# Altium footprint library 2016-03-26_18-23-46.PcbLib: 10 footprints
Each footprint in its own frame and in the unit in brackets; x right, y up, seen from the top. Pads: shape width x height; smd on the part's side, far side on the other; paste and mask are expansions set on the pad; w line width, h text height; cw(c..) or ccw(c..) is an arc to the next point about the centre after c.
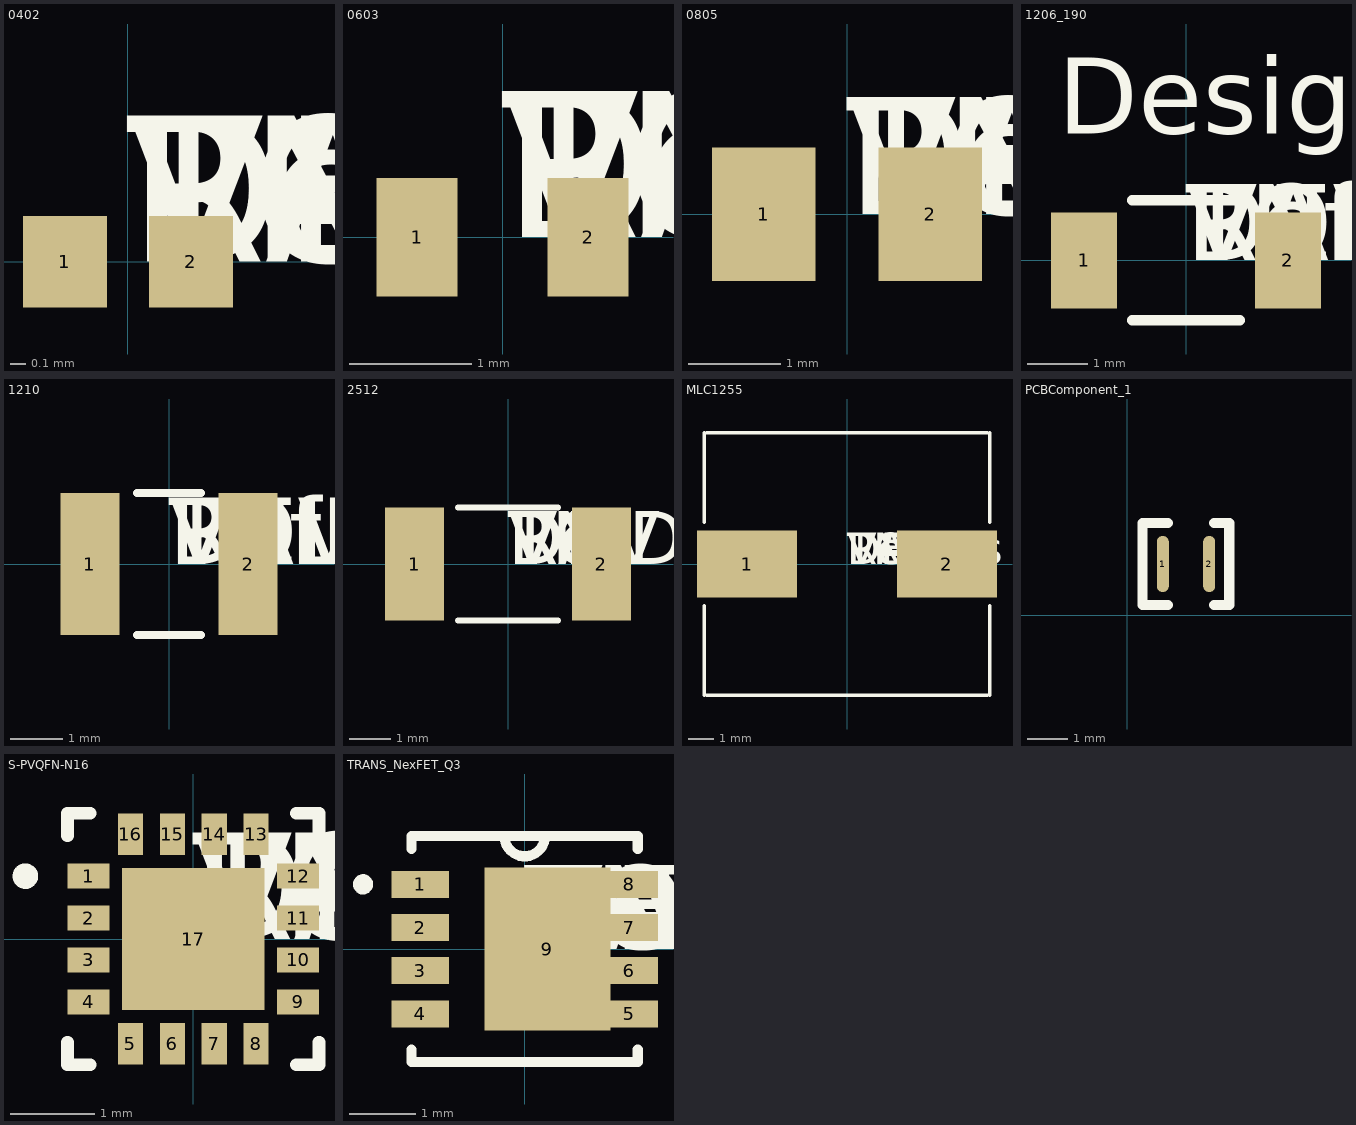
[diagram p0: the footprints below, top view; thin cyan lines are the x and y axes]

## 0402 [mil]
pads (2):
  rect 22x24 smd: 1(-16.5,0) 2(16.5,0)
Top Overlay:
  text "RefDes" at 0,0 h50
  text "DEV" at 0,0 h50
  text "PN" at 0,0 h50
  text "DEV" at 0,0 h50
  text "VAL" at 0,0 h50
  text "TOL" at 0,0 h50

## 0603 [mil]
pads (2):
  rect 26x38 smd: 1(-27.5,0) 2(27.5,0)
Top Overlay:
  text "RefDes" at 0,0 h50
  text "DEV" at 0,0 h50
  text "PN" at 0,0 h50
  text "DEV" at 0,0 h50
  text "VAL" at 0,0 h50
  text "TOL" at 0,0 h50

## 0805 [mil]
pads (2):
  rect 44x57 smd: 1(-35.5,0) 2(35.5,0)
Top Overlay:
  text "RefDes" at 0,0 h50
  text "DEV" at 0,0 h50
  text "PN" at 0,0 h50
  text "DEV" at 0,0 h50
  text "VAL" at 0,0 h50
  text "TOL" at 0,0 h50

## 1206_190 [mm]
pads (2):
  rect 1.1x1.6 smd paste+0 mask+0.051: 1(-1.7,0) 2(1.7,0)
Top Overlay:
  lines w0.17: -0.9,-1 0.9,-1 ; -0.9,1 0.9,1
  text "Designator12" at -2.134,2.108 h1.27
  text "RefDes" at 0,0 h1.27
  text "DEV" at 0,0 h1.27
  text "PN" at 0,0 h1.27
  text "DEV" at 0,0 h1.27
  text "VAL" at 0,0 h1.27
  text "TOL" at 0,0 h1.27

## 1210 [mil]
pads (2):
  rect 44x106 smd: 1(-59,0) 2(59,0)
Top Overlay:
  lines w6: -23.9,-53 23.9,-53 ; -23.9,53 23.9,53
  text "RefDes" at 0,0 h50
  text "DEV" at 0,0 h50
  text "PN" at 0,0 h50
  text "DEV" at 0,0 h50
  text "VAL" at 0,0 h50
  text "TOL" at 0,0 h50

## 2512 [mil]
pads (2):
  rect 56x107 smd: 1(-88.5,0) 2(88.5,0)
Top Overlay:
  lines w6: -47.4,-53.5 47.4,-53.5 ; -47.4,53.5 47.4,53.5
  text "RefDes" at 0,0 h50
  text "DEV" at 0,0 h50
  text "PN" at 0,0 h50
  text "DEV" at 0,0 h50
  text "VAL" at 0,0 h50
  text "TOL" at 0,0 h50

## MLC1255 [mil]
pads (2):
  rect 157.5x106 smd: 1(-157.25,0) 2(157.25,0)
Top Overlay:
  lines w6: -224.5,-206.5 -224.5,-66.1 ; -224.5,66.1 -224.5,206.5 ; -220.5,-206.5 220.5,-206.5 ; -220.5,206.5 220.5,206.5 ; 224.5,-206.5 224.5,-66.1 ; 224.5,66.1 224.5,206.5
  text "TOL" at 0,0 h50
  text "VAL" at 0,0 h50
  text "DEV" at 0,0 h50
  text "PN" at 0,0 h50
  text "DEV" at 0,0 h50
  text "RefDes" at 0,0 h50

## PCBComponent_1 [mm]
pads (2):
  oval 0.3x1.4 all layers, no hole: 1(0.889,1.27) 2(2.039,1.27)
Top Overlay:
  lines w0.254: 1.016,0.254 0.381,0.254 0.381,2.286 1.016,2.286 ; 2.159,0.254 2.54,0.254 2.54,2.286 2.159,2.286

## S-PVQFN-N16 [mm]
pads (17):
  rect 0.5x0.3 smd: 1(-1.25,0.75) 2(-1.25,0.25) 3(-1.25,-0.25) 4(-1.25,-0.75) 9(1.25,-0.75) 10(1.25,-0.25) 11(1.25,0.25) 12(1.25,0.75)
  rect 0.3x0.5 smd: 5(-0.75,-1.25) 6(-0.25,-1.25) 7(0.25,-1.25) 8(0.75,-1.25) 13(0.75,1.25) 14(0.25,1.25) 15(-0.25,1.25) 16(-0.75,1.25)
  rect 1.7x1.7 smd paste-0.837: 17(0,0)
Top Overlay:
  circle w0.152: c-2.004,0.75 r0.076
  lines w0.152: -1.5,-1.233 -1.5,-1.5 -1.233,-1.5 ; -1.5,1.233 -1.5,1.5 -1.233,1.5 ; 1.233,-1.5 1.5,-1.5 1.5,-1.233 ; 1.233,1.5 1.5,1.5 1.5,1.233
  text "TOL" at 0,0 h1.27
  text "VAL" at 0,0 h1.27
  text "DEV" at 0,0 h1.27
  text "PN" at 0,0 h1.27
  text "DEV" at 0,0 h1.27
  text "RefDes" at 0,0 h1.27
Top Paste:
  region: 0.85,0.85 -0.85,0.85 -0.85,-0.85 0.85,-0.85

## TRANS_NexFET_Q3 [mil]
pads (9):
  rect 34x16 smd: 1(-62,38.39) 2(-62,12.8) 3(-62,-12.8) 4(-62,-38.39) 5(62,-38.39) 6(62,-12.8) 7(62,12.8) 8(62,38.39)
  rect 74.8x96.46 smd: 9(13.46,0)
Top Layer:
  region: 67,0
Top Overlay:
  circle w6: c-95.8,38.39 r3
  lines w6: -67,-59.49 -67,-67 67,-67 67,-59.49 ; -67,59.49 -67,67 67,67 67,59.49 ; -12,67 ccw(c0,67) 12,67
  text "RefDes" at 0,0 h50
  text "DEV" at 0,0 h50
  text "PN" at 0,0 h50
  text "DEV" at 0,0 h50
  text "VAL" at 0,0 h50
  text "TOL" at 0,0 h50
Top Paste:
  region: 67,0
Top Solder:
  region: 67,0